# Altium footprint library PowerSupply.PcbLib: 26 footprints (part 1 of 2)
Each footprint in its own frame and in the unit in brackets; x right, y up, seen from the top. Pads: shape width x height; smd on the part's side, far side on the other; paste and mask are expansions set on the pad; w line width, h text height; cw(c..) or ccw(c..) is an arc to the next point about the centre after c.
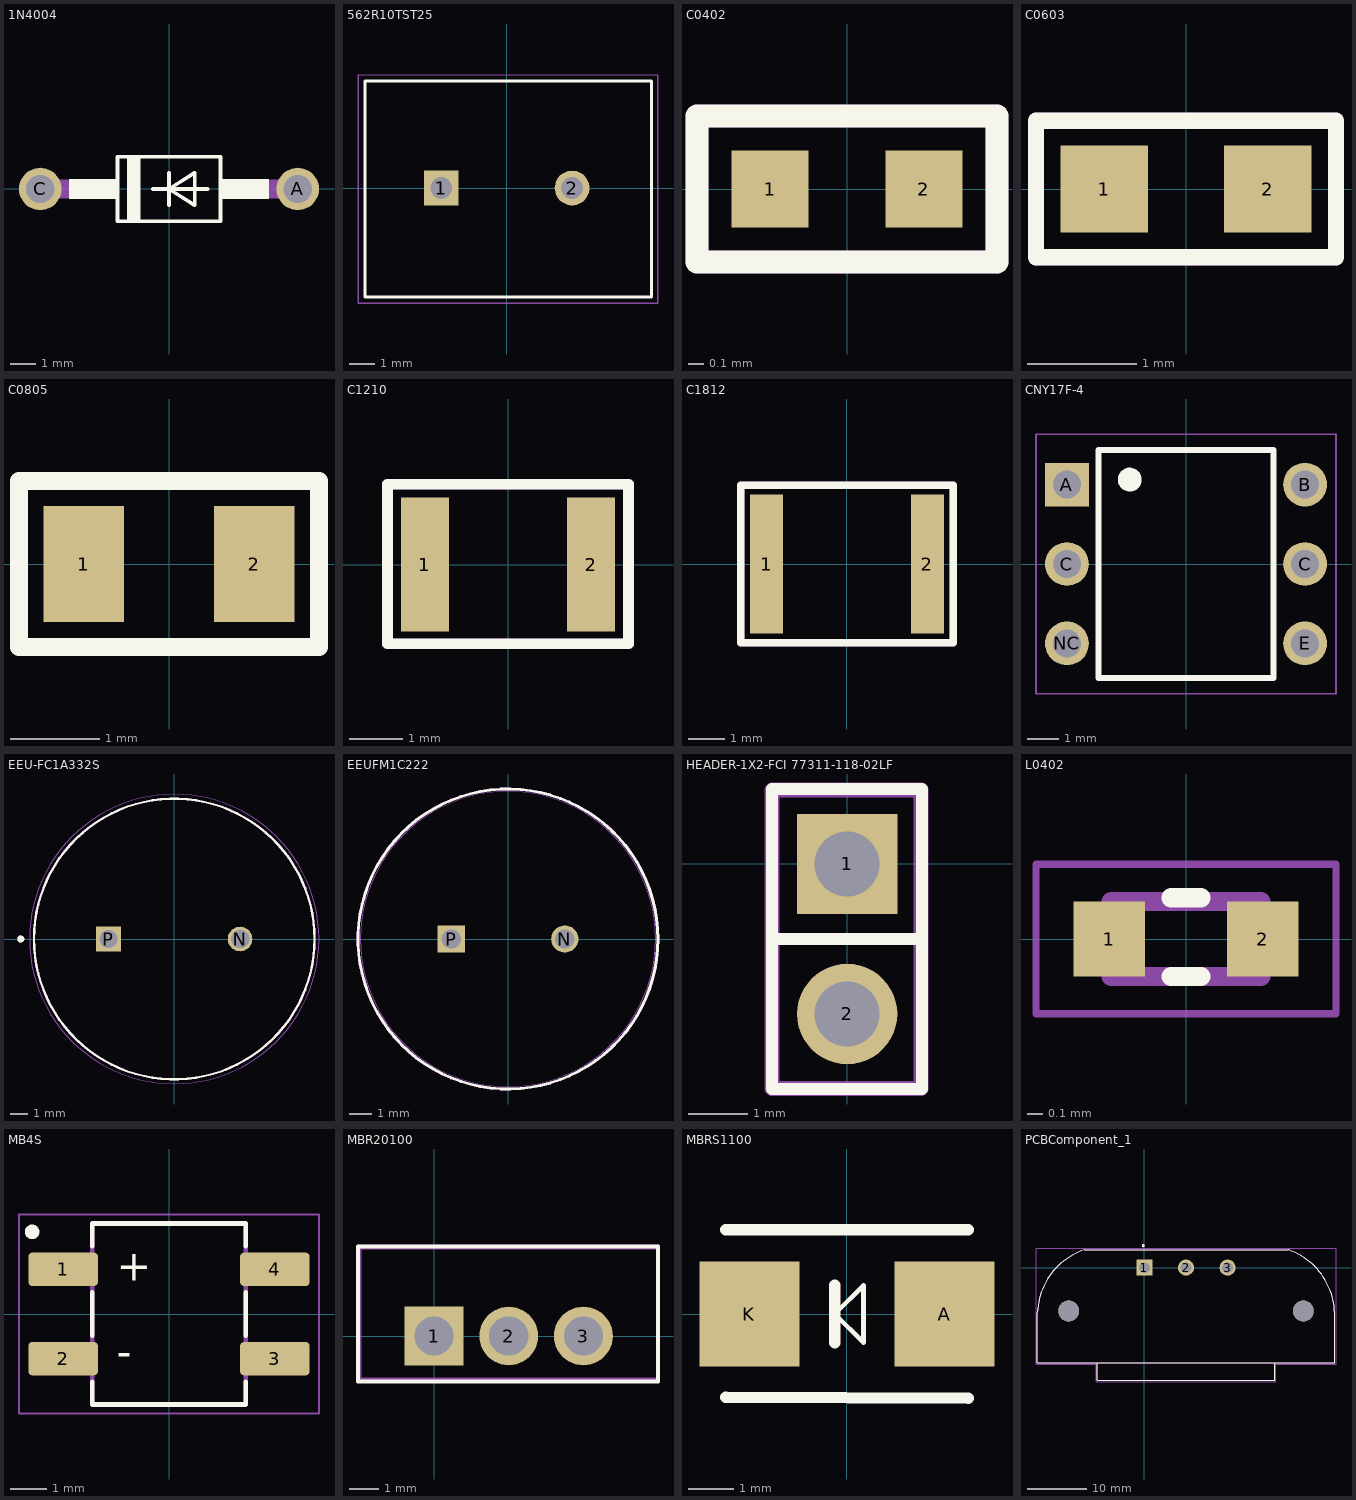
[diagram p0: the footprints below, top view; thin cyan lines are the x and y axes]

## 1N4004 [mil]
pads (2):
  round 66 hole 44: A(200,0) C(-200,0)
Top Overlay:
  region: -80,-15.02 -155.25,-15.02 -155.25,15 -80,15
  region: 155,-15.04 80.2,-15.04 80.2,15 155,15
  region: -45,-50.02 -65.03,-50.02 -65.03,50 -45,50
  lines w6: -25,0 0,0 ; 0,-25 0,0 ; 0,25 0,0 ; 60,0 0,0 ; 0,0 40,25 40,-25 0,0 ; -80,-50 -80,50 80,50 80,-50 -80,-50
Mechanical 1:
  text "'.Designator'" at -156.12,-11.48 h27.56
Mechanical 13:
  lines w30: -200,0 -160,0 ; 160,0 200,0
3D body "CR_DO-41DO-204AC_DTC.step": height 110, standoff -96.06, extent -211.49,-53.09 202.52,53.11

## 562R10TST25 [mm]
pads (2):
  rect 1.358x1.358 / inner round 1.358 / far side rect 1.358x1.358 hole 0.85: 1(-2.55,0)
  round 1.358 hole 0.85: 2(2.55,0)
Top Overlay:
  lines w0.127: -5.525,-4.25 5.65,-4.25 5.65,4.175 -5.525,4.175 -5.525,-4.2
Mechanical 1:
  text "'.Designator'" at -3.965,-0.292 h0.7
Mechanical 15:
  lines w0.05: -5.8,4.425 -5.8,-4.5 5.9,-4.5 5.9,4.4 ; -5.775,4.425 5.9,4.4
3D body "step_temp.STEP": height 19.4, standoff -7, extent -5.535,-4.221 5.586,4.176

## C0402 [mm] "Guidelines for Footprint Design - Walsin Technology Corporation"
pads (2):
  rect 0.5x0.5 smd: 1(-0.5,0) 2(0.5,0)
Top Overlay:
  lines w0.15: -0.975,-0.475 0.975,-0.475 0.975,0.475 -0.975,0.475 -0.975,-0.475
Mechanical 29:
  lines w0.15: -0.975,-0.475 0.975,-0.475 0.975,0.475 -0.975,0.475 -0.975,-0.475
  text ".Designator" at -0.975,-0.3 h0.6
3D body "C0402_Package.STEP": height 0.48, standoff -0.02, extent -0.5,-0.25 0.5,0.25

## C0603 [mm] "Guidelines for Footprint Design - Walsin Technology Corporation"
pads (2):
  rect 0.8x0.8 smd: 1(-0.75,0) 2(0.75,0)
Top Overlay:
  lines w0.15: -1.375,-0.625 -1.375,0.625 1.375,0.625 1.375,-0.625 -1.375,-0.625
Mechanical 29:
  lines w0.15: -1.375,-0.625 -1.375,-0.55 -1.375,0.625 1.375,0.625 1.375,-0.625 -1.375,-0.625
  text ".Designator" at -0.9,-0.4 h0.8
3D body "C0603_Package.STEP": height 0.79, standoff -0.01, extent -0.8,-0.4 0.8,0.4

## C0805 [mm] "Guidelines for Footprint Design - Walsin Technology Corporation"
pads (2):
  rect 0.9x1.3 smd: 1(-0.95,0) 2(0.95,0)
Top Overlay:
  lines w0.2: -1.675,-0.925 -1.675,0.925 1.675,0.925 1.675,-0.925 -1.675,-0.925
Mechanical 29:
  lines w0.2: -1.675,-0.925 1.675,-0.925 1.675,0.925 -1.675,0.925 -1.675,-0.925
  text ".Designator" at -1.7,-0.3 h0.8
3D body "C0805_Package.STEP": height 0.59, standoff -0.01, extent -1,-0.625 1,0.625

## C1210 [mm]
pads (2):
  rect 0.9x2.5 smd: 1(-1.55,0) 2(1.55,0)
Top Overlay:
  lines w0.2: -2.25,-1.475 -2.25,1.5 2.25,1.5 2.25,-1.475 -2.25,-1.475
Mechanical 29:
  lines w0.2: -2.25,-1.475 2.25,-1.475 2.25,1.5 -2.25,1.5 -2.25,-1.475
  text ".Designator" at -1.4,-0.35 h1
3D body "C1210_Package.STEP": height 0.79, standoff 0.01, extent -1.6,-1.25 1.6,1.25

## C1812 [mm]
pads (2):
  rect 0.9x3.8 smd: 1(-2.2,0) 2(2.2,0)
Top Overlay:
  lines w0.2: -2.9,-2.15 2.9,-2.15 2.9,2.15 -2.9,2.15 -2.9,-2.15
Mechanical 29:
  lines w0.2: -2.9,-2.15 -2.9,2.15 2.9,2.15 2.9,-2.15 -2.9,-2.15
  text ".Designator" at -1.925,-0.325 h1
3D body "C1812_Package.STEP": height 1, standoff 0, extent -2.25,-1.6 2.25,1.6

## CNY17F-4 [mm]
pads (6):
  rect 1.4x1.4 hole 0.9: A(-3.81,2.54)
  round 1.4 hole 0.9: B(3.81,2.54) C(-3.81,0) C(3.81,0) E(3.81,-2.54) NC(-3.81,-2.54)
Top Overlay:
  circle w0.2: c-1.8,2.7 r0.283
  lines w0.2: -1.8,2.7 -2,2.6 ; -2,2.6 -1.7,2.5 -1.6,2.7 -1.8,2.9 -2,2.6 ; -2.8,-3.65 -2.8,3.65 2.8,3.65 2.8,-3.65 -2.8,-3.65
Mechanical 1:
  text "'.Designator'" at -3.965,-0.292 h0.7
Mechanical 15:
  lines w0.05: -4.8,-4.15 -4.8,4.15 4.8,4.15 4.8,-4.15 -4.8,-4.15
3D body: height 5.87, standoff 4.87, extent -2.697,2.9 -1.9,3.698
3D body "CNY17F-4.STEP": height 5.89, standoff -3.02, extent -3.935,-4.267 3.935,4.271

## EEU-FC1A332S [mm]
pads (2):
  round 1.4 hole 1.05: N(3.75,0)
  rect 1.4x1.4 / inner round 1.4 / far side rect 1.4x1.4 hole 1.05: P(-3.75,0)
Top Overlay:
  circle w0.2: c-8.75,0 r0.1
  circle w0.127: c0,0 r8
Mechanical 1:
  text "'.Designator'" at -3.965,-0.292 h0.7
Mechanical 13:
  circle w0.2: c-8.75,0 r0.1
  circle w0.127: c0,0 r8
Mechanical 15:
  circle w0.05: c0,0 r8.25
3D body "step_temp.STEP": height 20, standoff -17, extent -8,-7.999 8,7.999

## EEUFM1C222 [mm]
pads (2):
  round 1.2 hole 0.85: N(2.5,0)
  rect 1.2x1.2 hole 0.85: P(-2.5,0)
Top Overlay:
  circle w0.127: c0,0 r6.6
Mechanical 1:
  text "'.Designator'" at -3.813,2.02 h0.7
Mechanical 13:
  circle w0.127: c0,0 r6.6
Mechanical 15:
  circle w0.05: c0,0 r6.5
3D body "step_temp.STEP": height 25, standoff -17, extent -6.25,-6.246 6.25,6.247

## HEADER-1X2-FCI 77311-118-02LF [mm]
pads (2):
  rect 1.7x1.7 hole 1.1: 1(0,0)
  round 1.7 hole 1.1: 2(0,-2.54)
Top Overlay:
  lines w0.203: -1.27,-1.27 1.27,-1.27 ; -1.27,-3.81 -1.27,1.27 1.27,1.27 1.27,-3.81 -1.27,-3.81
Mechanical 29:
  lines w0.254: -1.275,-3.8 1.25,-3.8 1.25,1.25 -1.275,1.25 -1.275,-3.8
  text ".Designator" at -3.725,2.25 h1.3
3D body: height 2.54, standoff 0.23, extent -1.27,-3.81 1.27,1.27
3D body: height 11.94, standoff -3.05, extent -0.381,-2.921 0.381,-2.159
3D body: height 11.94, standoff -3.05, extent -0.381,-0.381 0.381,0.381
3D body: height 2.57, standoff 2.54, extent -0.889,-0.889 0.902,0.889

## L0402 [mm]
pads (2):
  rect 0.475x0.5 smd: 1(-0.512,0) 2(0.512,0)
Top Overlay:
  lines w0.127: -0.1,-0.25 0.1,-0.25 ; -0.1,0.275 0.1,0.275
Mechanical 13:
  lines w0.127: -0.5,-0.25 -0.5,0.25 0.5,0.25 0.5,-0.25 -0.5,-0.25
  text "'.Designator'" at -3.965,-0.292 h0.7
Mechanical 15:
  lines w0.05: -1,-0.5 -1,0.5 1,0.5 1,-0.5 -1,-0.5
3D body "LQG15HS1N0S02D.STEP": height 0.56, standoff 0.01, extent -0.5,-0.25 0.5,0.25

## MB4S [mm]
pads (4):
  rrect23% 1.91x0.91 smd: 1(-2.9,1.225) 2(-2.9,-1.225) 3(2.9,-1.225) 4(2.9,1.225)
Top Overlay:
  circle w0.2: c-3.75,2.25 r0.1
  lines w0.127: -2.1,-1.86 -2.1,-2.48 2.1,-2.48 2.1,-1.86 ; -2.1,-0.6 -2.1,0.6 ; -2.1,1.86 -2.1,2.48 2.1,2.48 2.1,1.86 ; 2.1,-0.6 2.1,0.6
  text "-" at -1.435,-1.435 h0.84
  text "+" at -1.431,0.911 h0.83
Mechanical 1:
  text "'.Designator'" at -3.965,-0.292 h0.7
Mechanical 13:
  lines w0.127: -2.1,-2.48 -2.1,2.48 2.1,2.48 2.1,-2.48 -2.1,-2.48
Mechanical 15:
  lines w0.05: -4.11,-2.73 -4.11,2.73 4.11,2.73 4.11,-2.73 -4.11,-2.73
3D body "MB4S.STEP": height 2.71, standoff -0.19, extent -3.35,-2.362 3.35,2.363

## MBR20100 [mm]
pads (3):
  rect 2x2 hole 1.33: 1(0,0)
  round 2 hole 1.33: 2(2.54,0) 3(5.08,0)
Top Overlay:
  lines w0.127: -2.591,-1.549 7.62,-1.549 7.62,3.048 -2.591,3.048 -2.591,-1.549
Mechanical 1:
  text "'.Designator'" at -1.578,1.588 h0.7
Mechanical 13:
  lines w0.127: -2.54,-1.468 7.62,-1.468 7.62,3.048 -2.54,3.048 -2.54,-1.468
Mechanical 15:
  lines w0.05: -2.54,-1.524 7.595,-1.524 7.595,2.972 -2.54,2.972 -2.54,-1.524
3D body "MBR20100CT.STEP": height 18.81, standoff -9.99, extent -2.535,-1.575 7.565,2.935

## MBRS1100 [mm]
pads (2):
  rect 2.2x2.3 smd mask+0.1: A(2.15,0) K(-2.15,0)
Top Overlay:
  lines w0.102: -0.271,0 0.364,-0.635 0.364,0 0.364,0.635 -0.271,0
  lines w0.25: -0.271,-0.635 -0.271,0 -0.271,0.635
  lines w0.254: -2.667,-1.829 2.667,-1.854 ; -2.667,1.854 2.667,1.854
Mechanical 1:
  text "'.Designator'" at -3.94,0.978 h0.7
3D body "User Library-DO-214AA_SMB.STEP": height 2.25, standoff 0, extent -2.65,-1.85 2.65,1.85

## PCBComponent_1 [mm]
pads (5):
  rect 2.7x2.7 hole 1.8: 1(0,0)
  round 2.7 hole 1.8: 2(7,0) 3(14,0)
  round 3.5 hole 3.5 unplated: ""(-12.75,-7.3) ""(26.75,-7.3)
Top Overlay:
  circle w0.2: c-0.2,3.7 r0.15
  lines w0.127: -18,-7.6 -18,-16 -7.9,-16 ; -17.998,-7.539 cw(c-6.481,-7.941) -10.042,3.019 ; -10.1,3 -2.2,3 16.2,3 24.2,3 ; 24.266,2.978 cw(c20.531,-7.87) 32.001,-7.67 ; 32,-7.6 32,-16 21.9,-16 ; -7.9,-16 -7.9,-19 21.9,-19 21.9,-16 ; -7.9,-16 21.9,-16
Mechanical 1:
  text "'.Designator'" at 3.035,-7.292 h0.7
Mechanical 13:
  circle w0.2: c-0.2,3.7 r0.15
  lines w0.127: -18,-7.6 -18,-16 -7.9,-16 ; -17.998,-7.539 cw(c-6.481,-7.941) -10.042,3.019 ; -10.1,3 -2.2,3 16.2,3 24.2,3 ; 24.266,2.978 cw(c20.531,-7.87) 32.001,-7.67 ; 32,-7.6 32,-16 21.9,-16 ; -7.9,-16 -7.9,-19 21.9,-19 21.9,-16 ; -7.9,-16 21.9,-16
Mechanical 15:
  lines w0.05: -18.25,-16.3 -18.25,3.25 32.25,3.25 32.25,-16.25 22.15,-16.25 22.15,-19.25 -8.15,-19.25 -8.15,-16.3 -18.25,-16.3
3D body "52--3DModel-STEP-56544.STEP": height 27.31, standoff -3.49, extent -18.05,-19 32.05,8.8